# Altium footprint library SOIC - SmallOutlineIntegratedCircuit.PcbLib: 18 footprints (part 2 of 2)
Each footprint in its own frame and in the unit in brackets; x right, y up, seen from the top. Pads: shape width x height; smd on the part's side, far side on the other; paste and mask are expansions set on the pad; w line width, h text height; cw(c..) or ccw(c..) is an arc to the next point about the centre after c.
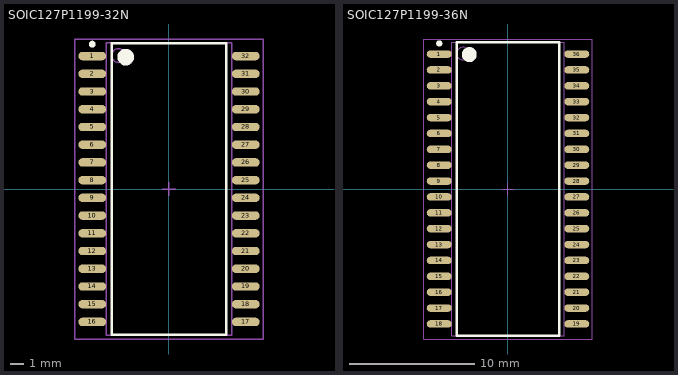
[diagram p1: the footprints below, top view; thin cyan lines are the x and y axes]

## SOIC127P1199-32N [mm] "SOIC, 32-Leads, Body 20.8x8.9mm, Pitch 1.27mm, IPC Medium Density"
height 2.64
pads (32):
  oval 2x0.6 smd: 1(-5.5,9.525) 2(-5.5,8.255) 3(-5.5,6.985) 4(-5.5,5.715) 5(-5.5,4.445) 6(-5.5,3.175) 7(-5.5,1.905) 8(-5.5,0.635) 9(-5.5,-0.635) 10(-5.5,-1.905) 11(-5.5,-3.175) 12(-5.5,-4.445) 13(-5.5,-5.715) 14(-5.5,-6.985) 15(-5.5,-8.255) 16(-5.5,-9.525) 17(5.5,-9.525) 18(5.5,-8.255) 19(5.5,-6.985) 20(5.5,-5.715) 21(5.5,-4.445) 22(5.5,-3.175) 23(5.5,-1.905) 24(5.5,-0.635) 25(5.5,0.635) 26(5.5,1.905) 27(5.5,3.175) 28(5.5,4.445) 29(5.5,5.715) 30(5.5,6.985) 31(5.5,8.255) 32(5.5,9.525)
Top Overlay:
  circle w0.6: c-3.1,9.45 r0.3
  circle w0.25: c-5.5,10.375 r0.125
  lines w0.2: -4.1,-10.45 4.1,-10.45 4.1,10.45 -4.1,10.45 -4.1,-10.45
TopBody:
  circle w0.1: c-3.61,9.565 r0.5
  lines w0.1: -4.51,-10.465 4.51,-10.465 4.51,10.465 -4.51,10.465 -4.51,-10.465
  text ".Designator" at -0.8,-0.175 h0.5
TopCourtyard:
  lines w0.1: -0.5,0 0.5,0 ; 0,-0.5 0,0.5 ; -6.75,-10.75 6.75,-10.75 6.75,10.75 -6.75,10.75 -6.75,-10.75
3D body: height 2.64, standoff 0, extent -4.51,-10.465 4.51,10.465

## SOIC127P1199-36N [mm] "SOIC, 36-Leads, Body 23.3x8.9mm, Pitch 1.27mm, IPC Medium Density"
height 2.64
pads (36):
  oval 2x0.6 smd: 1(-5.5,10.795) 2(-5.5,9.525) 3(-5.5,8.255) 4(-5.5,6.985) 5(-5.5,5.715) 6(-5.5,4.445) 7(-5.5,3.175) 8(-5.5,1.905) 9(-5.5,0.635) 10(-5.5,-0.635) 11(-5.5,-1.905) 12(-5.5,-3.175) 13(-5.5,-4.445) 14(-5.5,-5.715) 15(-5.5,-6.985) 16(-5.5,-8.255) 17(-5.5,-9.525) 18(-5.5,-10.795) 19(5.5,-10.795) 20(5.5,-9.525) 21(5.5,-8.255) 22(5.5,-6.985) 23(5.5,-5.715) 24(5.5,-4.445) 25(5.5,-3.175) 26(5.5,-1.905) 27(5.5,-0.635) 28(5.5,0.635) 29(5.5,1.905) 30(5.5,3.175) 31(5.5,4.445) 32(5.5,5.715) 33(5.5,6.985) 34(5.5,8.255) 35(5.5,9.525) 36(5.5,10.795)
Top Overlay:
  circle w0.6: c-3.1,10.75 r0.3
  circle w0.25: c-5.5,11.645 r0.125
  lines w0.2: -4.1,-11.75 4.1,-11.75 4.1,11.75 -4.1,11.75 -4.1,-11.75
TopBody:
  circle w0.1: c-3.61,10.835 r0.5
  lines w0.1: -4.51,-11.735 4.51,-11.735 4.51,11.735 -4.51,11.735 -4.51,-11.735
  text ".Designator" at -0.825,-0.175 h0.5
TopCourtyard:
  lines w0.1: -0.5,0 0.5,0 ; 0,-0.5 0,0.5 ; -6.75,-12 6.75,-12 6.75,12 -6.75,12 -6.75,-12
3D body: height 2.64, standoff 0, extent -4.51,-11.735 4.51,11.735